# EAGLE library part MCP7384 (library all-chips)
MCP7384 Microchip Advanced Single or Dual Cell Lithium-Ion/Lithium-Polymer Charge Management Controllers
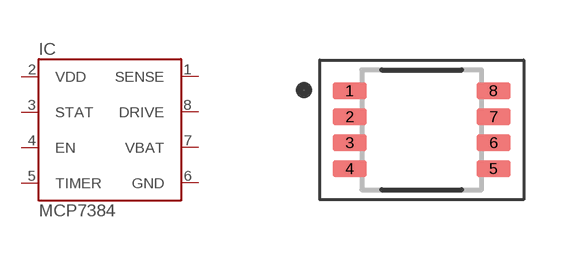
[diagram p13: symbol with the pads of SOP8_3.00X3.00MM; footprint SOP8_3.00X3.00MM]

Designator prefix IC

## MCP73843  [SOP8_3.00X3.00MM]
1  SENSE  in
2  VDD  pwr
3  STAT  out
4  EN  in
5  TIMER  in
6  GND  pwr
7  VBAT  in
8  DRIVE  out

## MCP73844  [SOP8_3.00X3.00MM]
Pads as for SOP8_3.00X3.00MM

## Footprint SOP8_3.00X3.00MM (pad centres in mm)
https://assets.nexperia.com/documents/package-information/SOT505-2.pdf
smd 0.85 x 0.4: 1 -1.8,0.975; 2 -1.8,0.325; 3 -1.8,-0.325; 4 -1.8,-0.975; 5 1.8,-0.975; 6 1.8,-0.325; 7 1.8,0.325; 8 1.8,0.975